# Altium schematic symbol library IC_APDS-9004.SchLib: 1 symbol
Pins are listed as number, name and electrical type; pins without a type are passive.

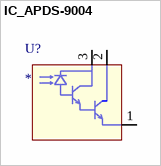
[diagram p0: symbol IC_APDS-9004]

## IC_APDS-9004
designator U?
pins: 1, 2, 3